# Altium schematic symbol library STM32G431K8T6.SchLib: 1 symbol
Pins are listed as number, name and electrical type; pins without a type are passive.

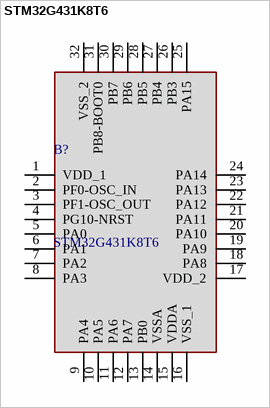
[diagram p0: symbol STM32G431K8T6]

## STM32G431K8T6
designator B?
STMICROELECTRONICS - STM32G431K8T6 - ARM MCU, STM32 Family STM32G4 Series Microcontrollers, ARM Cortex-M4F, 32bit, 170 MHz, 64 KB, 32 KB; Geometry.Height: 1.6mm; Mouser Part Number: 511-STM32G431K8T6; Mouser Price/Stock: https://www.mouser.co.uk/ProductDetail/STMicroelectronics/STM32G431K8T6?qs=uwxL4vQweFOdPzJwuo6fkQ%3D%3D; Manufacturer_Name: STMicroelectronics; Manufacturer_Part_Number: STM32G431K8T6; Datasheet Link: https://www.st.com/resource/en/datasheet/stm32g431c6.pdf
footprint QFP80P900X900X160-32N
pins: 1 VDD_1, 2 PF0-OSC_IN, 3 PF1-OSC_OUT, 4 PG10-NRST, 5 PA0, 6 PA1, 7 PA2, 8 PA3, 9 PA4, 10 PA5, 11 PA6, 12 PA7, 13 PB0, 14 VSSA, 15 VDDA, 16 VSS_1, 17 VDD_2, 18 PA8, 19 PA9, 20 PA10, 21 PA11, 22 PA12, 23 PA13, 24 PA14, 25 PA15, 26 PB3, 27 PB4, 28 PB5, 29 PB6, 30 PB7, 31 PB8-BOOT0, 32 VSS_2